# EAGLE library part SSW-105-02-S-D (library con-samtec)
THROUGH-HOLE .025" SQ POST SOCKET Source: Samtec SSW.pdf
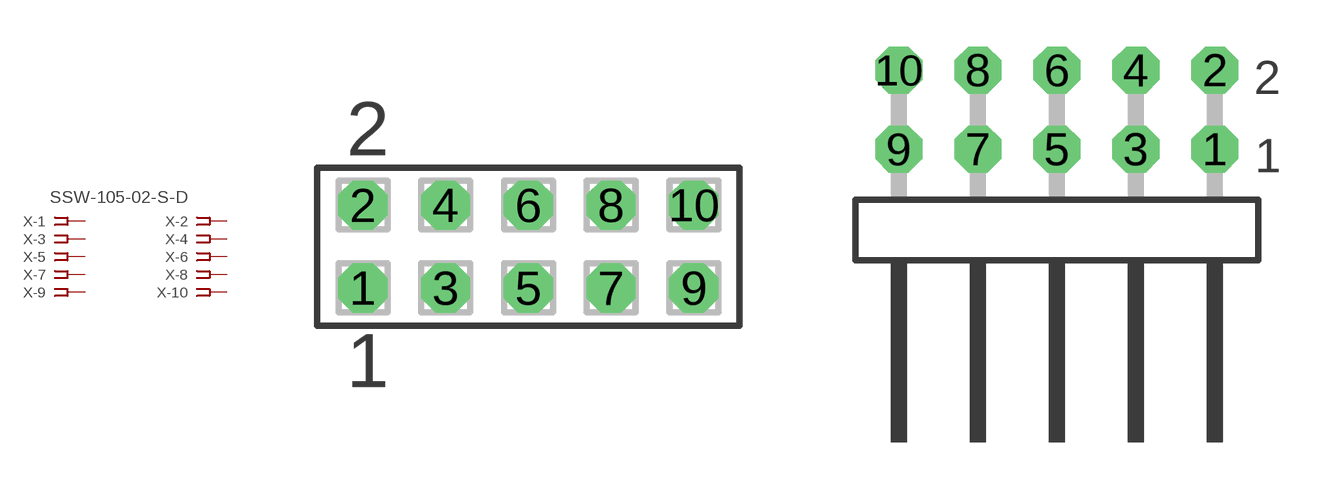
[diagram p194: symbol with the pads of SSW-105-02-S-D; footprints SSW-105-02-S-D, TSW-105-02-S-D-RA]

Designator prefix X; gates -1=FPINV -2=FPIN -3=FPIN -4=FPIN -5=FPIN -6=FPIN -7=FPIN -8=FPIN -9=FPIN -10=FPIN

## SSW-105-02-S-D (MPN: SSW-105-02-S-D; OC_FARNELL: unknown; OC_NEWARK: 11P9398)  [SSW-105-02-S-D]
1  -1:1  pas
2  -2:1  pas
3  -3:1  pas
4  -4:1  pas
5  -5:1  pas
6  -6:1  pas
7  -7:1  pas
8  -8:1  pas
9  -9:1  pas
10  -10:1  pas

## SSW-105-02-S-D-RA (MPN: SSW-105-02-S-D-RA; OC_FARNELL: unknown; OC_NEWARK: 18M6953)  [TSW-105-02-S-D-RA]
Pads as for SSW-105-02-S-D

## Footprint SSW-105-02-S-D (pad centres in mm)
THROUGH-HOLE .025" SQ POST SOCKET Source: Samtec SSW.pdf
drill 1 pad 1.5 octagon: 1 -5.08,-1.27; 2 -5.08,1.27; 3 -2.54,-1.27; 4 -2.54,1.27; 5 0,-1.27; 6 0,1.27; 7 2.54,-1.27; 8 2.54,1.27; 9 5.08,-1.27; 10 5.08,1.27

## Footprint TSW-105-02-S-D-RA (pad centres in mm)
THROUGH-HOLE .025" SQ POST HEADER Source: Samtec TSW.pdf
drill 1 pad 1.5 octagon: 1 5.08,1.524; 2 5.08,4.064; 3 2.54,1.524; 4 2.54,4.064; 5 0,1.524; 6 0,4.064; 7 -2.54,1.524; 8 -2.54,4.064; 9 -5.08,1.524; 10 -5.08,4.064